# EAGLE library part ATXMEGA (library X893)
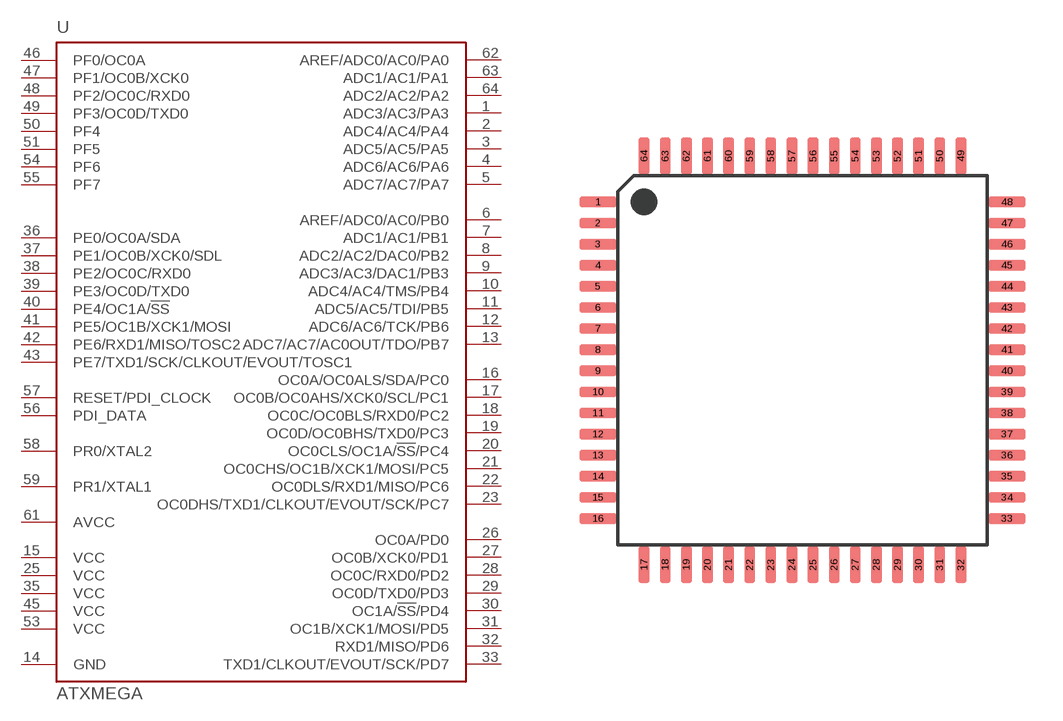
[diagram p66: symbol with the pads of TQFP64-14X14; footprint TQFP64-14X14]

Designator prefix U

## ATXMEGA256A3-AU  [TQFP64-14X14]
1  ADC3/AC3/PA3
2  ADC4/AC4/PA4
3  ADC5/AC5/PA5
4  ADC6/AC6/PA6
5  ADC7/AC7/PA7
6  AREF/ADC0/AC0/PB0
7  ADC1/AC1/PB1
8  ADC2/AC2/DAC0/PB2
9  ADC3/AC3/DAC1/PB3
10  ADC4/AC4/TMS/PB4
11  ADC5/AC5/TDI/PB5
12  ADC6/AC6/TCK/PB6
13  ADC7/AC7/AC0OUT/TDO/PB7
14  GND  pwr
15  VCC  pwr
16  OC0A/OC0ALS/SDA/PC0
17  OC0B/OC0AHS/XCK0/SCL/PC1
18  OC0C/OC0BLS/RXD0/PC2
19  OC0D/OC0BHS/TXD0/PC3
20  OC0CLS/OC1A/!SS!/PC4
21  OC0CHS/OC1B/XCK1/MOSI/PC5
22  OC0DLS/RXD1/MISO/PC6
23  OC0DHS/TXD1/CLKOUT/EVOUT/SCK/PC7
24  GND  pwr
25  VCC  pwr
26  OC0A/PD0
27  OC0B/XCK0/PD1
28  OC0C/RXD0/PD2
29  OC0D/TXD0/PD3
30  OC1A/!SS!/PD4
31  OC1B/XCK1/MOSI/PD5
32  RXD1/MISO/PD6
33  TXD1/CLKOUT/EVOUT/SCK/PD7
34  GND  pwr
35  VCC  pwr
36  PE0/OC0A/SDA
37  PE1/OC0B/XCK0/SDL
38  PE2/OC0C/RXD0
39  PE3/OC0D/TXD0
40  PE4/OC1A/!SS
41  PE5/OC1B/XCK1/MOSI
42  PE6/RXD1/MISO/TOSC2
43  PE7/TXD1/SCK/CLKOUT/EVOUT/TOSC1
44  GND  pwr
45  VCC  pwr
46  PF0/OC0A
47  PF1/OC0B/XCK0
48  PF2/OC0C/RXD0
49  PF3/OC0D/TXD0
50  PF4
51  PF5
52  GND  pwr
53  VCC  pwr
54  PF6
55  PF7
56  PDI_DATA
57  RESET/PDI_CLOCK
58  PR0/XTAL2
59  PR1/XTAL1
60  GND  pwr
61  AVCC  pas
62  AREF/ADC0/AC0/PA0
63  ADC1/AC1/PA1
64  ADC2/AC2/PA2

## Footprint TQFP64-14X14 (pad centres in mm)
smd 1.4 x 0.4: 1 -7.75,6; 2 -7.75,5.2; 3 -7.75,4.4; 4 -7.75,3.6; 5 -7.75,2.8; 6 -7.75,2; 7 -7.75,1.2; 8 -7.75,0.4; 9 -7.75,-0.4; 10 -7.75,-1.2; 11 -7.75,-2; 12 -7.75,-2.8; 13 -7.75,-3.6; 14 -7.75,-4.4; 15 -7.75,-5.2; 16 -7.75,-6; 33 7.75,-6; 34 7.75,-5.2; 35 7.75,-4.4; 36 7.75,-3.6; 37 7.75,-2.8; 38 7.75,-2; 39 7.75,-1.2; 40 7.75,-0.4; 41 7.75,0.4; 42 7.75,1.2; 43 7.75,2; 44 7.75,2.8; 45 7.75,3.6; 46 7.75,4.4; 47 7.75,5.2; 48 7.75,6
smd 0.4 x 1.4: 17 -6,-7.75; 18 -5.2,-7.75; 19 -4.4,-7.75; 20 -3.6,-7.75; 21 -2.8,-7.75; 22 -2,-7.75; 23 -1.2,-7.75; 24 -0.4,-7.75; 25 0.4,-7.75; 26 1.2,-7.75; 27 2,-7.75; 28 2.8,-7.75; 29 3.6,-7.75; 30 4.4,-7.75; 31 5.2,-7.75; 32 6,-7.75; 49 6,7.75; 50 5.2,7.75; 51 4.4,7.75; 52 3.6,7.75; 53 2.8,7.75; 54 2,7.75; 55 1.2,7.75; 56 0.4,7.75; 57 -0.4,7.75; 58 -1.2,7.75; 59 -2,7.75; 60 -2.8,7.75; 61 -3.6,7.75; 62 -4.4,7.75; 63 -5.2,7.75; 64 -6,7.75